# Altium schematic symbol library CSTCE10M0G55Z-R0.SchLib: 1 symbol
Pins are listed as number, name and electrical type; pins without a type are passive.

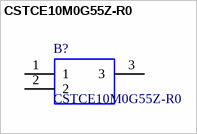
[diagram p0: symbol CSTCE10M0G55Z-R0]

## CSTCE10M0G55Z-R0
designator B?
Ceramic resonator SMT CSTCE 10.00MHz CSTCE10M0G55Z-R0, Ceramic Resonator, 10MHz Shear 33pF, 3-Pin Cap Chip, 3.2 x 1.3 x 0.7mm; Manufacturer_Name: Murata Electronics; Manufacturer_Part_Number: CSTCE10M0G55Z-R0; RS Part Number: 8119777; RS Price/Stock: http://uk.rs-online.com/web/p/products/8119777; Arrow Part Number: CSTCE10M0G55Z-R0; Arrow Price/Stock: https://www.arrow.com/en/products/cstce10m0g55z-r0/murata-manufacturing; Datasheet Link: http://uk.rs-online.com/web/p/products/1253205
footprint CSTCE_G
pins: 1, 2, 3